# Altium schematic symbol library Solder Pads.SchLib: 1 symbol
Pins are listed as number, name and electrical type; pins without a type are passive.

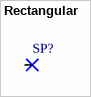
[diagram p0: symbol Rectangular]

## Rectangular
designator SP?
footprint 2.5x5mm
footprint 3MM (3MM Diam Pad)
pins: 1